# Altium footprint library 594D686X9010C2T.PcbLib: 3 footprints
Each footprint in its own frame and in the unit in brackets; x right, y up, seen from the top. Pads: shape width x height; smd on the part's side, far side on the other; paste and mask are expansions set on the pad; w line width, h text height; cw(c..) or ccw(c..) is an arc to the next point about the centre after c.
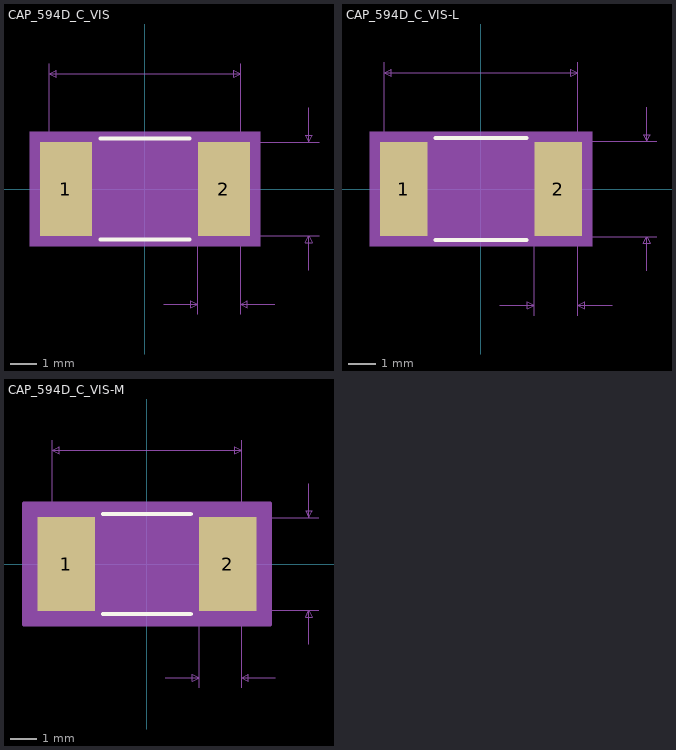
[diagram p0: the footprints below, top view; thin cyan lines are the x and y axes]

## CAP_594D_C_VIS [mil]
pads (2):
  rect 77x138 smd paste+0 mask+0: 1(-116,0) 2(116,0)
Top Overlay:
  lines w6: -65.39,-74 65.39,-74 ; -65.39,74 65.39,74
Mechanical 5:
  region: 169.5,-84 -169.5,-84 -169.5,84 169.5,84
Mechanical 7:
  lines w1: -140.5,0 -140.5,184 ; 0,-69 255.5,-69 ; 0,69 255.5,69 ; 27.5,-169 77.5,-169 ; 77.5,-184 77.5,0 ; 140.5,-184 140.5,0 140.5,184 ; 190.5,-169 140.5,-169 ; 240.5,-119 240.5,-69 ; 240.5,119 240.5,69 ; -140.5,169 140.5,169 ; -140.5,169 -130.5,174 -130.5,164 -140.5,169 ; 77.5,-169 67.5,-164 67.5,-174 77.5,-169 ; 140.5,-169 150.5,-164 150.5,-174 140.5,-169 ; 140.5,169 130.5,174 130.5,164 140.5,169 ; 240.5,-69 235.5,-79 245.5,-79 240.5,-69 ; 240.5,69 235.5,79 245.5,79 240.5,69
  text "Default Padstyle: RX77Y138D0T" at -362.5,-339 h50
  text "Alternate 1 Padstyle: OX60Y90D30P" at -412.5,-439 h50
  text "Alternate 2 Padstyle: OX90Y60D30P" at -412.5,-539 h50
  text "0.138in/3.505mm" at 260.5,-12.5 h25
  text "0.281in/7.137mm" at -93.75,189 h25
  text "0.063in/1.6mm" at 27.75,-214 h25
Mechanical 13:
  lines w1: -140.5,-69 -140.5,69 ; -140.5,-69 -77.5,-69 -77.5,69 -140.5,69 ; -140.5,-69 140.5,-69 ; -140.5,-69 -140.5,69 ; -140.5,69 140.5,69 ; 140.5,-69 77.5,-69 77.5,69 140.5,69 ; 140.5,-69 140.5,69 ; 140.5,-69 140.5,69
Mechanical 15:
  region: 164.5,-79 -164.5,-79 -164.5,79 164.5,79
  lines w6: -164.5,-79 -164.5,79 164.5,79 164.5,-79 -164.5,-79
3D body: height 10, standoff 0, extent 0,0 10,10
3D body "CAP_594D_C_VIS.step": height 110, standoff 0, extent -140.51,-69.02 140.51,69.02

## CAP_594D_C_VIS-L [mil]
pads (2):
  rect 69x136 smd paste+0 mask+0: 1(-112,0) 2(112,0)
Top Overlay:
  lines w6: -65.85,-74 65.85,-74 ; -65.85,74 65.85,74
Mechanical 5:
  region: 161.5,-83 -161.5,-83 -161.5,83 161.5,83
Mechanical 7:
  lines w1: -140.5,0 -140.5,184 ; 0,-69 255.5,-69 ; 0,69 255.5,69 ; 27.5,-169 77.5,-169 ; 77.5,-184 77.5,0 ; 140.5,-184 140.5,0 140.5,184 ; 190.5,-169 140.5,-169 ; 240.5,-119 240.5,-69 ; 240.5,119 240.5,69 ; -140.5,169 -130.5,164 -130.5,174 -140.5,169 ; -140.5,169 140.5,169 ; 77.5,-169 67.5,-174 67.5,-164 77.5,-169 ; 140.5,-169 150.5,-174 150.5,-164 140.5,-169 ; 140.5,169 130.5,164 130.5,174 140.5,169 ; 240.5,-69 245.5,-79 235.5,-79 240.5,-69 ; 240.5,69 245.5,79 235.5,79 240.5,69
  text "0.063in/1.6mm" at 27.75,-214 h25
  text "0.281in/7.137mm" at -93.75,189 h25
  text "0.138in/3.505mm" at 260.5,-12.5 h25
  text "Alternate 2 Padstyle: OX90Y60D30P" at -412.5,-538 h50
  text "Alternate 1 Padstyle: OX60Y90D30P" at -412.5,-438 h50
  text "Default Padstyle: RX69Y136D0T" at -362.5,-338 h50
Mechanical 13:
  lines w1: -140.5,-69 -140.5,69 ; -140.5,-69 140.5,-69 ; -140.5,-69 -77.5,-69 -77.5,69 -140.5,69 ; -140.5,-69 -140.5,69 ; -140.5,69 140.5,69 ; 140.5,-69 140.5,69 ; 140.5,-69 140.5,69 ; 140.5,-69 77.5,-69 77.5,69 140.5,69
Mechanical 15:
  region: 150.5,-72 -150.5,-72 -150.5,72 150.5,72
  lines w6: -150.5,-72 150.5,-72 150.5,72 -150.5,72 -150.5,-72
3D body: height 10, standoff 0, extent 0,0 10,10

## CAP_594D_C_VIS-M [mil]
pads (2):
  rect 85x140 smd paste+0 mask+0: 1(-120,0) 2(120,0)
Top Overlay:
  lines w6: -65.03,-74 65.03,-74 ; -65.03,74 65.03,74
Mechanical 5:
  region: 177.5,-85 -177.5,-85 -177.5,85 177.5,85
Mechanical 7:
  lines w1: -140.5,0 -140.5,184 ; 0,-69 255.5,-69 ; 0,69 255.5,69 ; 27.5,-169 77.5,-169 ; 77.5,-184 77.5,0 ; 140.5,-184 140.5,0 140.5,184 ; 190.5,-169 140.5,-169 ; 240.5,-119 240.5,-69 ; 240.5,119 240.5,69 ; -140.5,169 -130.5,164 -130.5,174 -140.5,169 ; -140.5,169 140.5,169 ; 77.5,-169 67.5,-174 67.5,-164 77.5,-169 ; 140.5,-169 150.5,-174 150.5,-164 140.5,-169 ; 140.5,169 130.5,164 130.5,174 140.5,169 ; 240.5,-69 245.5,-79 235.5,-79 240.5,-69 ; 240.5,69 245.5,79 235.5,79 240.5,69
  text "0.063in/1.6mm" at 27.75,-214 h25
  text "0.281in/7.137mm" at -93.75,189 h25
  text "0.138in/3.505mm" at 260.5,-12.5 h25
  text "Alternate 2 Padstyle: OX90Y60D30P" at -412.5,-540 h50
  text "Alternate 1 Padstyle: OX60Y90D30P" at -412.5,-440 h50
  text "Default Padstyle: RX85Y140D0T" at -362.5,-340 h50
Mechanical 13:
  lines w1: -140.5,-69 -140.5,69 ; -140.5,-69 140.5,-69 ; -140.5,-69 -77.5,-69 -77.5,69 -140.5,69 ; -140.5,-69 -140.5,69 ; -140.5,69 140.5,69 ; 140.5,-69 140.5,69 ; 140.5,-69 140.5,69 ; 140.5,-69 77.5,-69 77.5,69 140.5,69
Mechanical 15:
  region: 182.5,-90 -182.5,-90 -182.5,90 182.5,90
  lines w6: -182.5,-90 182.5,-90 182.5,90 -182.5,90 -182.5,-90
3D body: height 10, standoff 0, extent 0,0 10,10